# EAGLE library part LASTTRENNSICHERUNG_3-POL (library e-sicherungen)
Lasttrennsicherung, 3-pol.
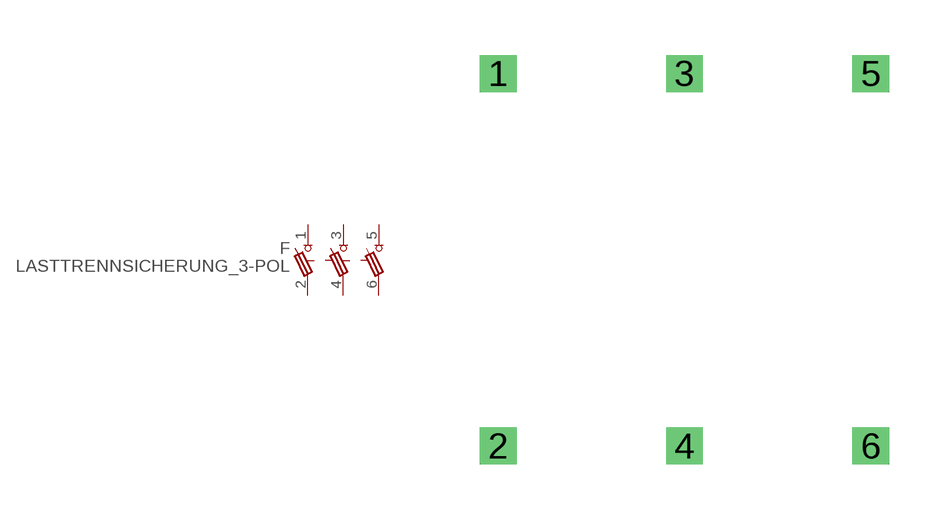
[diagram p4: symbol with the pads of LASTTRENNSICHERUNG_3-POL; footprint LASTTRENNSICHERUNG_3-POL]

Designator prefix F

## LASTTRENNSICHERUNG_3-POL  [LASTTRENNSICHERUNG_3-POL]
1  1  pas
2  2  pas
3  3  pas
4  4  pas
5  5  pas
6  6  pas

## Footprint LASTTRENNSICHERUNG_3-POL (pad centres in mm)
Dummy
drill 0.5 pad 1 square: 1 -5.08,-2.54; 2 -5.08,-12.7; 3 0,-2.54; 4 0,-12.7; 5 5.08,-2.54; 6 5.08,-12.7